# Altium footprint library Board-Footprints.PcbLib: 19 footprints (part 1 of 2)
Each footprint in its own frame and in the unit in brackets; x right, y up, seen from the top. Pads: shape width x height; smd on the part's side, far side on the other; paste and mask are expansions set on the pad; w line width, h text height; cw(c..) or ccw(c..) is an arc to the next point about the centre after c.
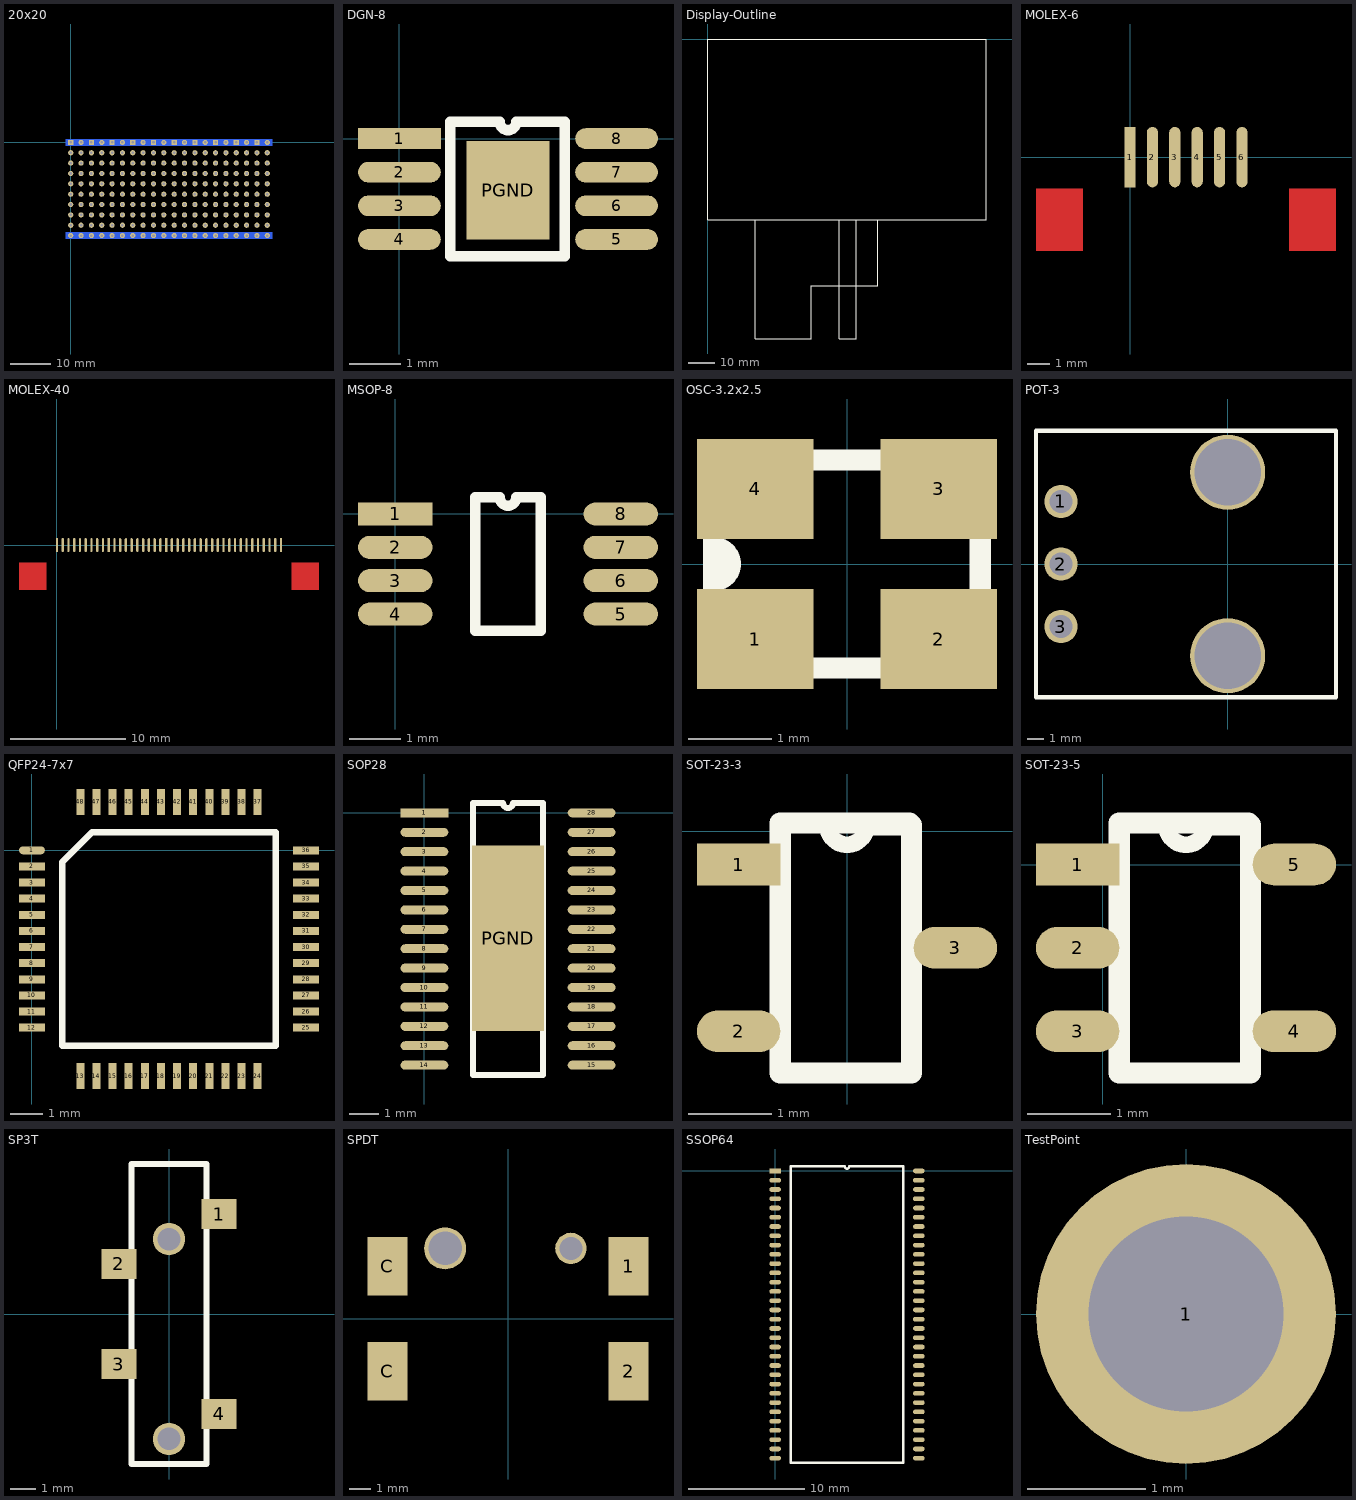
[diagram p0: the footprints below, top view; thin cyan lines are the x and y axes]

## 20x20 [mil]
pads (202):
  round 50 hole 25: 2(0,-100) 2(200,-100) 2(400,-100) 2(600,-100) 2(800,-100) 2(1000,-100) 2(1200,-100) 2(1400,-100) 2(1600,-100) 2(1800,-100) 3(0,-200) 3(200,-200) 3(400,-200) 3(600,-200) 3(800,-200) 3(1000,-200) 3(1200,-200) 3(1400,-200) 3(1600,-200) 3(1800,-200) 4(0,-300) 4(200,-300) 4(400,-300) 4(600,-300) 4(800,-300) 4(1000,-300) 4(1200,-300) 4(1400,-300) 4(1600,-300) 4(1800,-300) 5(0,-400) 5(200,-400) 5(400,-400) 5(600,-400) 5(800,-400) 5(1000,-400) 5(1200,-400) 5(1400,-400) 5(1600,-400) 5(1800,-400) 6(0,-500) 6(200,-500) 6(400,-500) 6(600,-500) 6(800,-500) 6(1000,-500) 6(1200,-500) 6(1400,-500) 6(1600,-500) 6(1800,-500) 7(0,-600) 7(200,-600) 7(400,-600) 7(600,-600) 7(800,-600) 7(1000,-600) 7(1200,-600) 7(1400,-600) 7(1600,-600) 7(1800,-600) 8(0,-700) 8(200,-700) 8(400,-700) 8(600,-700) 8(800,-700) 8(1000,-700) 8(1200,-700) 8(1400,-700) 8(1600,-700) 8(1800,-700) 9(0,-800) 9(200,-800) 9(400,-800) 9(600,-800) 9(800,-800) 9(1000,-800) 9(1200,-800) 9(1400,-800) 9(1600,-800) 9(1800,-800) 12(100,-800) 12(300,-800) 12(500,-800) 12(700,-800) 12(900,-800) 12(1100,-800) 12(1300,-800) 12(1500,-800) 12(1700,-800) 12(1900,-800) 13(100,-700) 13(300,-700) 13(500,-700) 13(700,-700) 13(900,-700) 13(1100,-700) 13(1300,-700) 13(1500,-700) 13(1700,-700) 13(1900,-700) 14(100,-600) 14(300,-600) 14(500,-600) 14(700,-600) 14(900,-600) 14(1100,-600) 14(1300,-600) 14(1500,-600) 14(1700,-600) 14(1900,-600) 15(100,-500) 15(300,-500) 15(500,-500) 15(700,-500) 15(900,-500) 15(1100,-500) 15(1300,-500) 15(1500,-500) 15(1700,-500) 15(1900,-500) 16(100,-400) 16(300,-400) 16(500,-400) 16(700,-400) 16(900,-400) 16(1100,-400) 16(1300,-400) 16(1500,-400) 16(1700,-400) 16(1900,-400) 17(100,-300) 17(300,-300) 17(500,-300) 17(700,-300) 17(900,-300) 17(1100,-300) 17(1300,-300) 17(1500,-300) 17(1700,-300) 17(1900,-300) 18(100,-200) 18(300,-200) 18(500,-200) 18(700,-200) 18(900,-200) 18(1100,-200) 18(1300,-200) 18(1500,-200) 18(1700,-200) 18(1900,-200) 19(100,-100) 19(300,-100) 19(500,-100) 19(700,-100) 19(900,-100) 19(1100,-100) 19(1300,-100) 19(1500,-100) 19(1700,-100) 19(1900,-100) PGGND(0,-900) PGGND(100,-900) PGGND(200,-900) PGGND(300,-900) PGGND(400,-900) PGGND(500,-900) PGGND(600,-900) PGGND(700,-900) PGGND(800,-900) PGGND(900,-900) PGGND(1000,-900) PGGND(1100,-900) PGGND(1200,-900) PGGND(1300,-900) PGGND(1400,-900) PGGND(1500,-900) PGGND(1600,-900) PGGND(1700,-900) PGGND(1800,-900) PGGND(1900,-900) PGVCC(100,0) PGVCC(300,0) PGVCC(500,0) PGVCC(700,0) PGVCC(900,0) PGVCC(1100,0) PGVCC(1300,0) PGVCC(1500,0) PGVCC(1700,0) PGVCC(1900,0)
  rect 2000x60 smd far side: PGGND(950,-900) PGVCC(950,0)
  rect 50x50 hole 25: PGVCC(0,0) PGVCC(200,0) PGVCC(400,0) PGVCC(600,0) PGVCC(800,0) PGVCC(1000,0) PGVCC(1200,0) PGVCC(1400,0) PGVCC(1600,0) PGVCC(1800,0)

## DGN-8 [mm]
pads (9):
  rect 1.6x0.4 smd: 1(0,0)
  oval 1.6x0.4 smd: 2(0,-0.65) 3(0,-1.3) 4(0,-1.95) 5(4.2,-1.95) 6(4.2,-1.3) 7(4.2,-0.65) 8(4.2,0)
  rect 1.6x1.9 smd: PGND(2.1,-1)
Top Overlay:
  lines w0.2: 0.985,-2.275 3.2,-2.275 3.2,0.325 2.262,0.325 cw(c2.1,0.325) 1.937,0.325 0.985,0.325 0.985,-0.975 0.985,-2.275

## Display-Outline [mm]
Top Overlay:
  lines w0.254: 18,-68 18,-113 39,-113 39,-93 64,-93 64,-68 ; 49.5,-68 49.5,-113 56,-113 56,-68 ; 0,-68 0,-67 0,0 105,0 105,-68 1,-68 0,-68

## MOLEX-6 [mm]
pads (6):
  rect 0.5x2.7 smd: 1(0,0)
  oval 0.5x2.7 smd: 2(1,0) 3(2,0) 4(3,0) 5(4,0) 6(5,0)
Top Layer:
  rectangle: 7.1,-4.2 9.2,-1.4
  rectangle: -4.2,-4.2 -2.1,-1.4

## MOLEX-40 [mm]
pads (40):
  rect 0.2x1.2 smd: 1(0,0) 10(4.5,0) 20(9.5,0) 30(14.5,0) 40(19.5,0)
  oval 0.2x1.2 smd: 2(0.5,0) 3(1,0) 4(1.5,0) 5(2,0) 6(2.5,0) 7(3,0) 8(3.5,0) 9(4,0) 11(5,0) 12(5.5,0) 13(6,0) 14(6.5,0) 15(7,0) 16(7.5,0) 17(8,0) 18(8.5,0) 19(9,0) 21(10,0) 22(10.5,0) 23(11,0) 24(11.5,0) 25(12,0) 26(12.5,0) 27(13,0) 28(13.5,0) 29(14,0) 31(15,0) 32(15.5,0) 33(16,0) 34(16.5,0) 35(17,0) 36(17.5,0) 37(18,0) 38(18.5,0) 39(19,0)
Top Layer:
  rectangle: 20.4,-3.9 22.8,-1.5
  rectangle: -3.3,-3.9 -0.9,-1.5

## MSOP-8 [mm]
pads (8):
  rect 1.45x0.45 smd: 1(0,0)
  oval 1.45x0.45 smd: 2(0,-0.65) 3(0,-1.3) 4(0,-1.95) 5(4.4,-1.95) 6(4.4,-1.3) 7(4.4,-0.65) 8(4.4,0)
Top Overlay:
  lines w0.2: 1.56,-2.275 1.56,0.325 2.037,0.325 ccw(c2.2,0.325) 2.362,0.325 2.84,0.325 2.84,-2.275 1.56,-2.275

## OSC-3.2x2.5 [mm]
pads (4):
  rect 1.4x1.2 smd: 1(-1.1,-0.9) 2(1.1,-0.9) 3(1.1,0.9) 4(-1.1,0.9)
Top Overlay:
  lines w0.254: -1.6,-0.2 ccw(c-1.6,0) -1.6,0.2 ; -1.6,-1.25 1.6,-1.25 1.6,1.25 -1.6,1.25 -1.6,0.1 -1.6,-1.25

## POT-3 [mm]
pads (5):
  round 2 hole 1.4: 1(-10,3.75) 2(-10,0) 3(-10,-3.75)
  round 4.5 hole 4: ""(0,-5.5) ""(0,5.5)
Top Overlay:
  lines w0.254: -11.5,-8 6.5,-8 6.5,0 6.5,8 -11.5,8 -11.5,-8

## QFP24-7x7 [mm]
pads (48):
  oval 0.8x0.25 smd: 1(0,0)
  rect 0.8x0.25 smd: 2(0,-0.5) 3(0,-1) 4(0,-1.5) 5(0,-2) 6(0,-2.5) 7(0,-3) 8(0,-3.5) 9(0,-4) 10(0,-4.5) 11(0,-5) 12(0,-5.5) 25(8.5,-5.5) 26(8.5,-5) 27(8.5,-4.5) 28(8.5,-4) 29(8.5,-3.5) 30(8.5,-3) 31(8.5,-2.5) 32(8.5,-2) 33(8.5,-1.5) 34(8.5,-1) 35(8.5,-0.5) 36(8.5,0)
  rect 0.25x0.8 smd: 13(1.5,-7) 14(2,-7) 15(2.5,-7) 16(3,-7) 17(3.5,-7) 18(4,-7) 19(4.5,-7) 20(5,-7) 21(5.5,-7) 22(6,-7) 23(6.5,-7) 24(7,-7) 37(7,1.5) 38(6.5,1.5) 39(6,1.5) 40(5.5,1.5) 41(5,1.5) 42(4.5,1.5) 43(4,1.5) 44(3.5,1.5) 45(3,1.5) 46(2.5,1.5) 47(2,1.5) 48(1.5,1.5)
Top Overlay:
  lines w0.2: 0.935,-6.065 0.935,-0.37 1.87,0.565 7.565,0.565 7.565,-6.065 0.935,-6.065

## SOP28 [mm]
pads (29):
  rect 1.6x0.3 smd: 1(0,0)
  oval 1.6x0.3 smd: 2(0,-0.65) 3(0,-1.3) 4(0,-1.95) 5(0,-2.6) 6(0,-3.25) 7(0,-3.9) 8(0,-4.55) 9(0,-5.2) 10(0,-5.85) 11(0,-6.5) 12(0,-7.15) 13(0,-7.8) 14(0,-8.45) 15(5.6,-8.45) 16(5.6,-7.8) 17(5.6,-7.15) 18(5.6,-6.5) 19(5.6,-5.85) 20(5.6,-5.2) 21(5.6,-4.55) 22(5.6,-3.9) 23(5.6,-3.25) 24(5.6,-2.6) 25(5.6,-1.95) 26(5.6,-1.3) 27(5.6,-0.65) 28(5.6,0)
  rect 2.4x6.2 smd: PGND(2.8,-4.2)
Top Overlay:
  lines w0.2: 1.635,-8.775 1.635,0.325 2.638,0.325 ccw(c2.8,0.325) 2.962,0.325 3.965,0.325 3.965,-8.775 1.635,-8.775

## SOT-23-3 [mm]
pads (3):
  rect 1x0.5 smd: 1(-1.3,-0.4)
  oval 1x0.5 smd: 2(-1.3,-2.4) 3(1.3,-1.4)
Top Overlay:
  lines w0.2: -0.235,0.075 0.238,0.075 cw(c0,0.075) -0.238,0.075 0.235,0.075
  lines w0.254: -0.775,0.075 -0.8,0.1 ; 0.238,0.075 0.775,0.075 0.775,-2.9 -0.8,-2.9 -0.8,0.1 ; 0.75,0.1 -0.8,0.1

## SOT-23-5 [mm]
pads (5):
  rect 1x0.5 smd: 1(-0.3,0)
  oval 1x0.5 smd: 2(-0.3,-1) 3(-0.3,-2) 4(2.3,-2) 5(2.3,0)
Top Overlay:
  lines w0.2: 0.765,0.475 1.238,0.475 cw(c1,0.475) 0.763,0.475 1.235,0.475
  lines w0.254: 0.225,0.475 0.2,0.5 ; 1.238,0.475 1.775,0.475 1.775,-2.5 0.2,-2.5 0.2,0.5 ; 1.75,0.5 0.2,0.5

## SP3T [mm]
pads (6):
  rect 1.4x1.2 smd: 1(2,4) 2(-2,2) 3(-2,-2) 4(2,-4)
  round 1.3 hole 0.9: ""(0,-5) ""(0,3)
Top Overlay:
  lines w0.254: -1.5,-6 1.5,-6 1.5,0 1.5,6 -1.5,6 -1.5,-6

## SPDT [mm]
pads (6):
  rect 1.9x2.8 smd: 1(5.75,2.5) 2(5.75,-2.5) C(-5.75,-2.5) C(-5.75,2.5)
  round 2 hole 1.6: ""(-3,3.35)
  round 1.5 hole 1.1: ""(3,3.35)

## SSOP64 [mm]
pads (64):
  rect 1x0.4 smd: 1(0,0)
  oval 1x0.4 smd: 2(0,-0.8) 3(0,-1.6) 4(0,-2.4) 5(0,-3.2) 6(0,-4) 7(0,-4.8) 8(0,-5.6) 9(0,-6.4) 10(0,-7.2) 11(0,-8) 12(0,-8.8) 13(0,-9.6) 14(0,-10.4) 15(0,-11.2) 16(0,-12) 17(0,-12.8) 18(0,-13.6) 19(0,-14.4) 20(0,-15.2) 21(0,-16) 22(0,-16.8) 23(0,-17.6) 24(0,-18.4) 25(0,-19.2) 26(0,-20) 27(0,-20.8) 28(0,-21.6) 29(0,-22.4) 30(0,-23.2) 31(0,-24) 32(0,-24.8) 33(12.4,-24.8) 34(12.4,-24) 35(12.4,-23.2) 36(12.4,-22.4) 37(12.4,-21.6) 38(12.4,-20.8) 39(12.4,-20) 40(12.4,-19.2) 41(12.4,-18.4) 42(12.4,-17.6) 43(12.4,-16.8) 44(12.4,-16) 45(12.4,-15.2) 46(12.4,-14.4) 47(12.4,-13.6) 48(12.4,-12.8) 49(12.4,-12) 50(12.4,-11.2) 51(12.4,-10.4) 52(12.4,-9.6) 53(12.4,-8.8) 54(12.4,-8) 55(12.4,-7.2) 56(12.4,-6.4) 57(12.4,-5.6) 58(12.4,-4.8) 59(12.4,-4) 60(12.4,-3.2) 61(12.4,-2.4) 62(12.4,-1.6) 63(12.4,-0.8) 64(12.4,0)
Top Overlay:
  lines w0.2: 1.335,-25.2 1.335,0.4 6,0.4 ccw(c6.2,0.4) 6.4,0.4 11.065,0.4 11.065,-25.2 1.335,-25.2

## TestPoint [mil]
pads (1):
  round 100 hole 65: 1(0,0)